# EAGLE library part LPC11U24FBD48/401 (library minibox-parts)
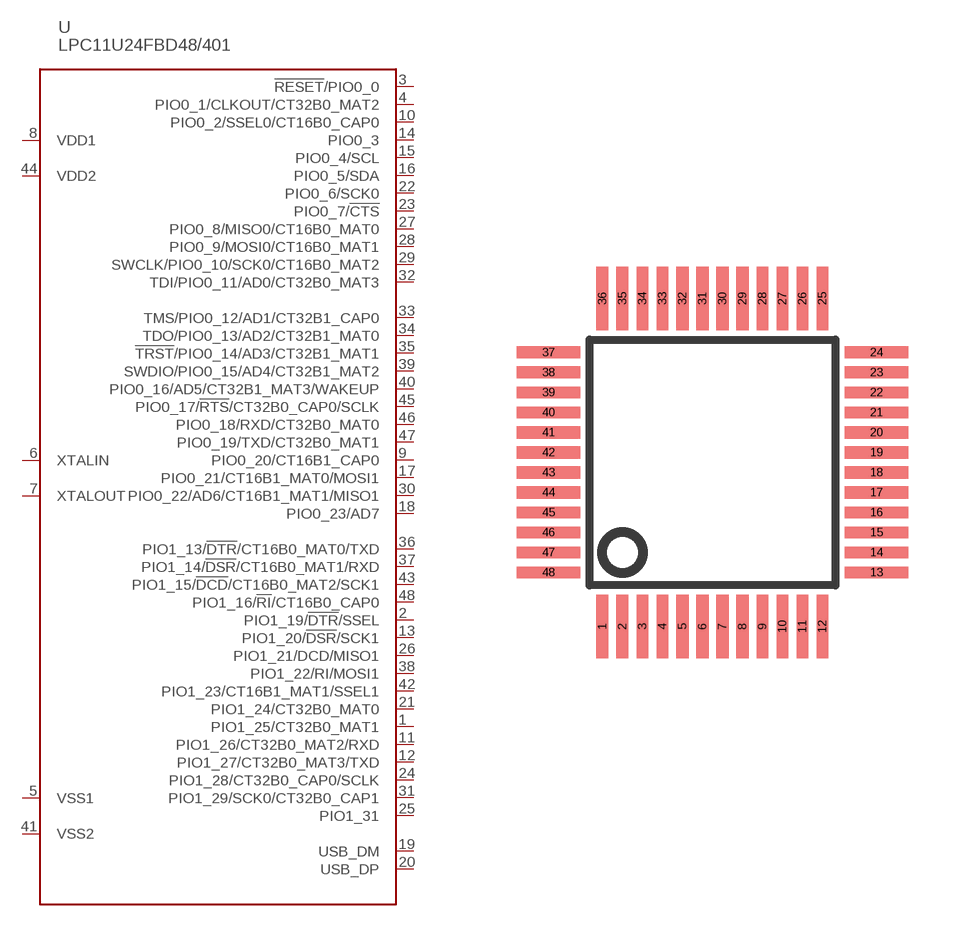
[diagram p4: symbol with the pads of LQFP48; footprint LQFP48]

Designator prefix -

## LPC11U24FBD48/401  [LQFP48]
1  PIO1_25/CT32B0_MAT1
2  PIO1_19/!DTR!/SSEL
3  !RESET!/PIO0_0
4  PIO0_1/CLKOUT/CT32B0_MAT2
5  VSS1  pwr
6  XTALIN  pas
7  XTALOUT  pas
8  VDD1  pwr
9  PIO0_20/CT16B1_CAP0
10  PIO0_2/SSEL0/CT16B0_CAP0
11  PIO1_26/CT32B0_MAT2/RXD
12  PIO1_27/CT32B0_MAT3/TXD
13  PIO1_20/!DSR!/SCK1
14  PIO0_3
15  PIO0_4/SCL
16  PIO0_5/SDA
17  PIO0_21/CT16B1_MAT0/MOSI1
18  PIO0_23/AD7
19  USB_DM
20  USB_DP
21  PIO1_24/CT32B0_MAT0
22  PIO0_6/SCK0
23  PIO0_7/!CTS!
24  PIO1_28/CT32B0_CAP0/SCLK
25  PIO1_31
26  PIO1_21/DCD/MISO1
27  PIO0_8/MISO0/CT16B0_MAT0
28  PIO0_9/MOSI0/CT16B0_MAT1
29  SWCLK/PIO0_10/SCK0/CT16B0_MAT2
30  PIO0_22/AD6/CT16B1_MAT1/MISO1
31  PIO1_29/SCK0/CT32B0_CAP1
32  TDI/PIO0_11/AD0/CT32B0_MAT3
33  TMS/PIO0_12/AD1/CT32B1_CAP0
34  TDO/PIO0_13/AD2/CT32B1_MAT0
35  !TRST!/PIO0_14/AD3/CT32B1_MAT1
36  PIO1_13/!DTR!/CT16B0_MAT0/TXD
37  PIO1_14/!DSR!/CT16B0_MAT1/RXD
38  PIO1_22/RI/MOSI1
39  SWDIO/PIO0_15/AD4/CT32B1_MAT2
40  PIO0_16/AD5/CT32B1_MAT3/WAKEUP
41  VSS2  pwr
42  PIO1_23/CT16B1_MAT1/SSEL1
43  PIO1_15/!DCD!/CT16B0_MAT2/SCK1
44  VDD2  pwr
45  PIO0_17/!RTS!/CT32B0_CAP0/SCLK
46  PIO0_18/RXD/CT32B0_MAT0
47  PIO0_19/TXD/CT32B0_MAT1
48  PIO1_16/!RI!/CT16B0_CAP0

## Footprint LQFP48 (pad centres in mm)
smd 0.3 x 1.6: 1 -2.75,-4.1; 2 -2.25,-4.1; 3 -1.75,-4.1; 4 -1.25,-4.1; 5 -0.75,-4.1; 6 -0.25,-4.1; 7 0.25,-4.1; 8 0.75,-4.1; 9 1.25,-4.1; 10 1.75,-4.1; 11 2.25,-4.1; 12 2.75,-4.1; 25 2.75,4.1; 26 2.25,4.1; 27 1.75,4.1; 28 1.25,4.1; 29 0.75,4.1; 30 0.25,4.1; 31 -0.25,4.1; 32 -0.75,4.1; 33 -1.25,4.1; 34 -1.75,4.1; 35 -2.25,4.1; 36 -2.75,4.1
smd 1.6 x 0.3: 13 4.1,-2.75; 14 4.1,-2.25; 15 4.1,-1.75; 16 4.1,-1.25; 17 4.1,-0.75; 18 4.1,-0.25; 19 4.1,0.25; 20 4.1,0.75; 21 4.1,1.25; 22 4.1,1.75; 23 4.1,2.25; 24 4.1,2.75; 37 -4.1,2.75; 38 -4.1,2.25; 39 -4.1,1.75; 40 -4.1,1.25; 41 -4.1,0.75; 42 -4.1,0.25; 43 -4.1,-0.25; 44 -4.1,-0.75; 45 -4.1,-1.25; 46 -4.1,-1.75; 47 -4.1,-2.25; 48 -4.1,-2.75